# Altium schematic symbol library LEON-Gx-SPE-SMD.SchLib: 1 symbol
Pins are listed as number, name and electrical type; pins without a type are passive.

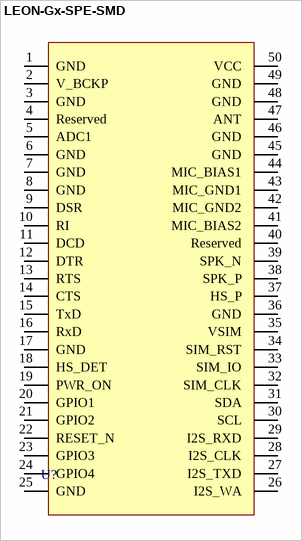
[diagram p0: symbol LEON-Gx-SPE-SMD]

## LEON-Gx-SPE-SMD
designator U?  (value not drawn)
pins: 1 GND, 2 V_BCKP, 3 GND, 4 Reserved, 5 ADC1, 6 GND, 7 GND, 8 GND, 9 DSR, 10 RI, 11 DCD, 12 DTR, 13 RTS, 14 CTS, 15 TxD, 16 RxD, 17 GND, 18 HS_DET, 19 PWR_ON, 20 GPIO1, 21 GPIO2, 22 RESET_N, 23 GPIO3, 24 GPIO4 , 25 GND , 26 I2S_WA , 27 I2S_TXD , 28 I2S_CLK , 29 I2S_RXD , 30 SCL , 31 SDA , 32 SIM_CLK , 33 SIM_IO , 34 SIM_RST , 35 VSIM , 36 GND , 37 HS_P , 38 SPK_P , 39 SPK_N , 40 Reserved , 41 MIC_BIAS2 , 42 MIC_GND2 , 43 MIC_GND1 , 44 MIC_BIAS1 , 45 GND , 46 GND , 47 ANT , 48 GND , 49 GND , 50 VCC 